# Altium footprint library OSTA56A1A-C.PcbLib: 1 footprints
Each footprint in its own frame and in the unit in brackets; x right, y up, seen from the top. Pads: shape width x height; smd on the part's side, far side on the other; paste and mask are expansions set on the pad; w line width, h text height; cw(c..) or ccw(c..) is an arc to the next point about the centre after c.
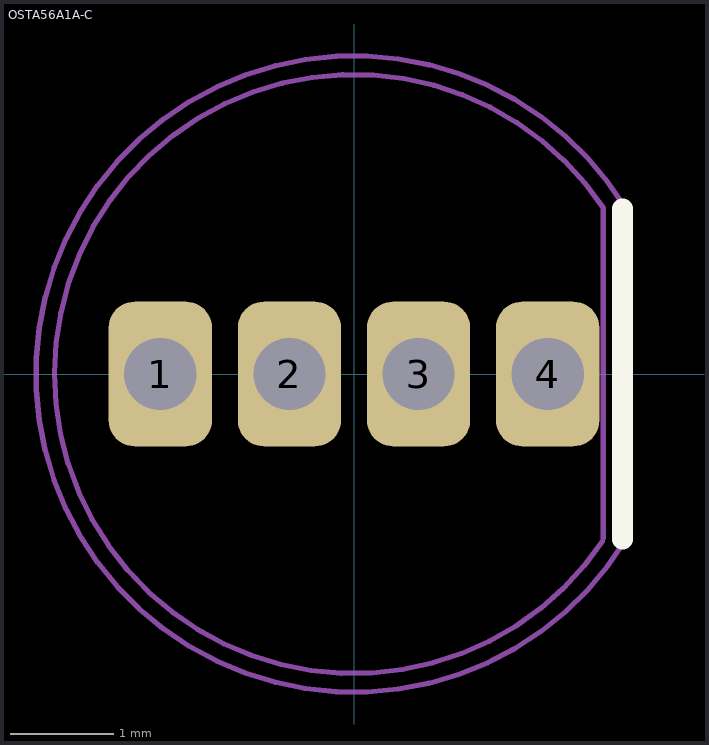
[diagram p0: the footprint, top view; thin cyan lines are the x and y axes]

## OSTA56A1A-C [mm]
pads (4):
  rrect50% 1x1.4 hole 0.7 mask+0.05: 1(-1.875,0) 2(-0.625,0) 3(0.625,0) 4(1.875,0)
Top Overlay:
  lines w0.2: 2.6,-1.6 2.6,1.6
Top Assembly:
  lines w0.05: 2.406,-1.619 cw(c0,0) 2.413,1.609 2.413,-1.591
Top Courtyard:
  lines w0.05: 2.624,-1.615 cw(c0,0) 2.624,1.615 2.624,-1.615
3D body "OSTA56A1A-C.step": height 4.75, standoff -1.7, extent -2.9,-2.899 2.4,2.899